# Altium footprint library Connector_PinSocket_1.00mm.PcbLib: 156 footprints (part 3 of 10)
Each footprint in its own frame and in the unit in brackets; x right, y up, seen from the top. Pads: shape width x height; smd on the part's side, far side on the other; paste and mask are expansions set on the pad; w line width, h text height; cw(c..) or ccw(c..) is an arc to the next point about the centre after c.
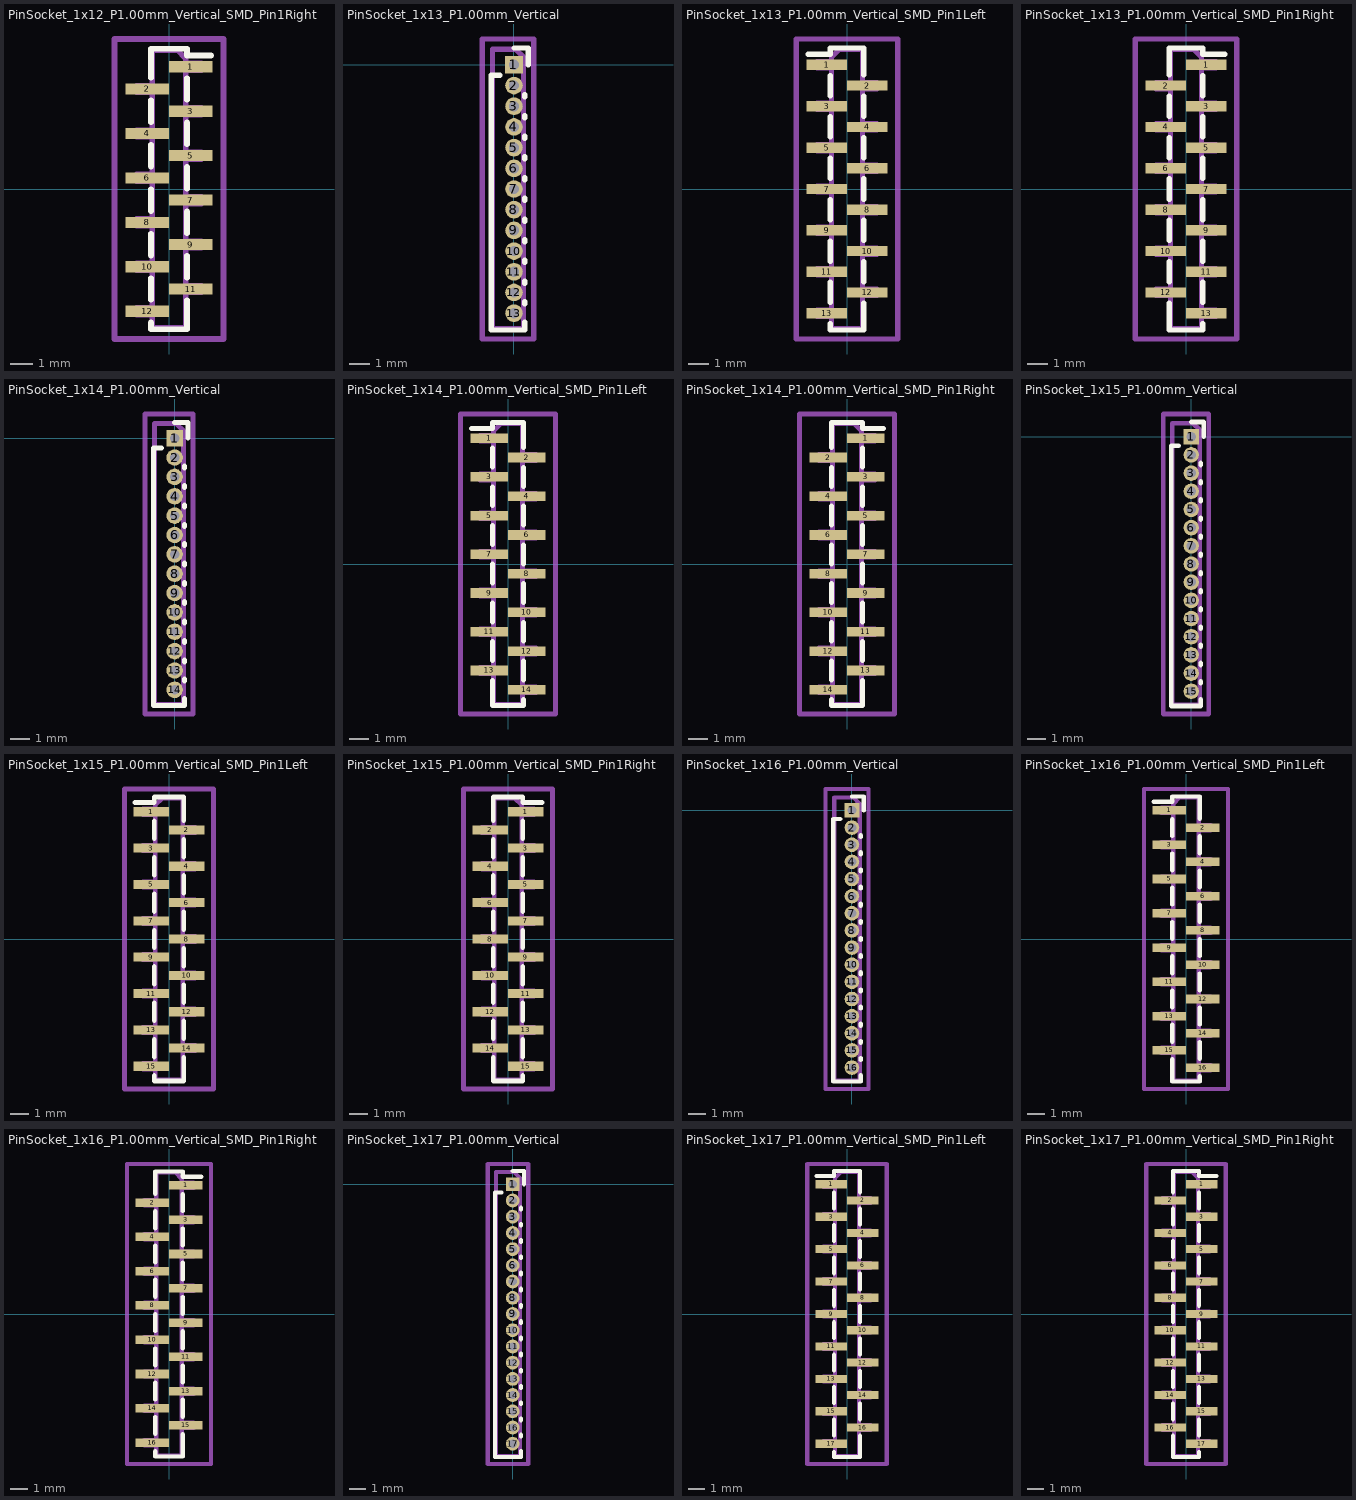
[diagram p2: the footprints below, top view; thin cyan lines are the x and y axes]

## PinSocket_1x12_P1.00mm_Vertical_SMD_Pin1Right [mm]
pads (12):
  rect 1.95x0.5 smd: 1(0.975,5.5) 2(-0.975,4.5) 3(0.975,3.5) 4(-0.975,2.5) 5(0.975,1.5) 6(-0.975,0.5) 7(0.975,-0.5) 8(-0.975,-1.5) 9(0.975,-2.5) 10(-0.975,-3.5) 11(0.975,-4.5) 12(-0.975,-5.5)
F.SilkS:
  lines w0.254: -0.81,-6.01 -0.81,-6.31 0.81,-6.31 0.81,-5.01 ; -0.81,-4.99 -0.81,-4.01 ; -0.81,-2.99 -0.81,-2.01 ; -0.81,-0.99 -0.81,-0.01 ; -0.81,1.01 -0.81,1.99 ; -0.81,3.01 -0.81,3.99 ; -0.81,5.01 -0.81,6.31 0.81,6.31 0.81,6.01 1.89,6.01 ; 0.81,-3.99 0.81,-3.01 ; 0.81,-1.99 0.81,-1.01 ; 0.81,0.01 0.81,0.99 ; 0.81,2.01 0.81,2.99 ; 0.81,4.01 0.81,4.99
Top Assembly:
  lines w0.254: -0.75,-5.65 -1.45,-5.65 -1.45,-5.35 -0.75,-5.35 ; -0.75,-3.65 -1.45,-3.65 -1.45,-3.35 -0.75,-3.35 ; -0.75,-1.65 -1.45,-1.65 -1.45,-1.35 -0.75,-1.35 ; -0.75,0.35 -1.45,0.35 -1.45,0.65 -0.75,0.65 ; -0.75,2.35 -1.45,2.35 -1.45,2.65 -0.75,2.65 ; -0.75,4.35 -1.45,4.35 -1.45,4.65 -0.75,4.65 ; 0.75,-4.65 1.45,-4.65 1.45,-4.35 0.75,-4.35 ; 0.75,-2.65 1.45,-2.65 1.45,-2.35 0.75,-2.35 ; 0.75,-0.65 1.45,-0.65 1.45,-0.35 0.75,-0.35 ; 0.75,1.35 1.45,1.35 1.45,1.65 0.75,1.65 ; 0.75,3.35 1.45,3.35 1.45,3.65 0.75,3.65 ; 0.75,5.35 1.45,5.35 1.45,5.65 0.75,5.65 ; -0.75,-6.25 0.75,-6.25 0.75,5.875 0.375,6.25 -0.75,6.25 -0.75,-6.25
  text "'.Designator'" at 0.761,-3.647 h0.9
Top Courtyard:
  lines w0.254: -2.45,-6.75 2.45,-6.75 2.45,6.75 -2.45,6.75 -2.45,-6.75
Top Designator:
  text ".Designator" at -7.618,-0.508 h1.52

## PinSocket_1x13_P1.00mm_Vertical [mm]
pads (13):
  rect 0.85x0.85 hole 0.5: 1(0,0)
  round 0.85 hole 0.5: 2(0,-1) 3(0,-2) 4(0,-3) 5(0,-4) 6(0,-5) 7(0,-6) 8(0,-7) 9(0,-8) 10(0,-9) 11(0,-10) 12(0,-11) 13(0,-12)
F.SilkS:
  lines w0.254: -0.685,-0.5 -1.1,-0.5 -1.1,-12.81 0.52,-12.81 0.52,-12.446 ; 0,0.81 0.685,0.81 0.685,0 ; 0.52,-11.554 0.52,-11.446 ; 0.52,-10.554 0.52,-10.446 ; 0.52,-9.554 0.52,-9.446 ; 0.52,-8.554 0.52,-8.446 ; 0.52,-7.554 0.52,-7.446 ; 0.52,-6.554 0.52,-6.446 ; 0.52,-5.554 0.52,-5.446 ; 0.52,-4.554 0.52,-4.446 ; 0.52,-3.554 0.52,-3.446 ; 0.52,-2.554 0.52,-2.446 ; 0.52,-1.554 0.52,-1.446
Top Assembly:
  lines w0.254: -1.04,-12.75 0.46,-12.75 0.46,0.375 0.085,0.75 -1.04,0.75 -1.04,-12.75
  text "'.Designator'" at 0.471,-9.647 h0.9
Top Courtyard:
  lines w0.254: -1.54,-13.25 0.96,-13.25 0.96,1.25 -1.54,1.25 -1.54,-13.25
Top Designator:
  text ".Designator" at -7.908,-6.508 h1.52

## PinSocket_1x13_P1.00mm_Vertical_SMD_Pin1Left [mm]
pads (13):
  rect 1.95x0.5 smd: 1(-0.975,6) 2(0.975,5) 3(-0.975,4) 4(0.975,3) 5(-0.975,2) 6(0.975,1) 7(-0.975,0) 8(0.975,-1) 9(-0.975,-2) 10(0.975,-3) 11(-0.975,-4) 12(0.975,-5) 13(-0.975,-6)
F.SilkS:
  lines w0.254: -1.89,6.51 -0.81,6.51 -0.81,6.81 0.81,6.81 0.81,5.51 ; -0.81,-6.51 -0.81,-6.81 0.81,-6.81 0.81,-5.51 ; -0.81,-5.49 -0.81,-4.51 ; -0.81,-3.49 -0.81,-2.51 ; -0.81,-1.49 -0.81,-0.51 ; -0.81,0.51 -0.81,1.49 ; -0.81,2.51 -0.81,3.49 ; -0.81,4.51 -0.81,5.49 ; 0.81,-4.49 0.81,-3.51 ; 0.81,-2.49 0.81,-1.51 ; 0.81,-0.49 0.81,0.49 ; 0.81,1.51 0.81,2.49 ; 0.81,3.51 0.81,4.49
Top Assembly:
  lines w0.254: -0.75,-6.15 -1.45,-6.15 -1.45,-5.85 -0.75,-5.85 ; -0.75,-4.15 -1.45,-4.15 -1.45,-3.85 -0.75,-3.85 ; -0.75,-2.15 -1.45,-2.15 -1.45,-1.85 -0.75,-1.85 ; -0.75,-0.15 -1.45,-0.15 -1.45,0.15 -0.75,0.15 ; -0.75,1.85 -1.45,1.85 -1.45,2.15 -0.75,2.15 ; -0.75,3.85 -1.45,3.85 -1.45,4.15 -0.75,4.15 ; -0.75,5.85 -1.45,5.85 -1.45,6.15 -0.75,6.15 ; 0.75,-5.15 1.45,-5.15 1.45,-4.85 0.75,-4.85 ; 0.75,-3.15 1.45,-3.15 1.45,-2.85 0.75,-2.85 ; 0.75,-1.15 1.45,-1.15 1.45,-0.85 0.75,-0.85 ; 0.75,0.85 1.45,0.85 1.45,1.15 0.75,1.15 ; 0.75,2.85 1.45,2.85 1.45,3.15 0.75,3.15 ; 0.75,4.85 1.45,4.85 1.45,5.15 0.75,5.15 ; -0.75,-6.75 0.75,-6.75 0.75,6.75 -0.375,6.75 -0.75,6.375 -0.75,-6.75
  text "'.Designator'" at 0.761,-3.647 h0.9
Top Courtyard:
  lines w0.254: -2.45,-7.25 2.45,-7.25 2.45,7.25 -2.45,7.25 -2.45,-7.25
Top Designator:
  text ".Designator" at -7.618,-0.508 h1.52

## PinSocket_1x13_P1.00mm_Vertical_SMD_Pin1Right [mm]
pads (13):
  rect 1.95x0.5 smd: 1(0.975,6) 2(-0.975,5) 3(0.975,4) 4(-0.975,3) 5(0.975,2) 6(-0.975,1) 7(0.975,0) 8(-0.975,-1) 9(0.975,-2) 10(-0.975,-3) 11(0.975,-4) 12(-0.975,-5) 13(0.975,-6)
F.SilkS:
  lines w0.254: -0.81,-5.51 -0.81,-6.81 0.81,-6.81 0.81,-6.51 ; -0.81,-4.49 -0.81,-3.51 ; -0.81,-2.49 -0.81,-1.51 ; -0.81,-0.49 -0.81,0.49 ; -0.81,1.51 -0.81,2.49 ; -0.81,3.51 -0.81,4.49 ; -0.81,5.51 -0.81,6.81 0.81,6.81 0.81,6.51 1.89,6.51 ; 0.81,-5.49 0.81,-4.51 ; 0.81,-3.49 0.81,-2.51 ; 0.81,-1.49 0.81,-0.51 ; 0.81,0.51 0.81,1.49 ; 0.81,2.51 0.81,3.49 ; 0.81,4.51 0.81,5.49
Top Assembly:
  lines w0.254: -0.75,-5.15 -1.45,-5.15 -1.45,-4.85 -0.75,-4.85 ; -0.75,-3.15 -1.45,-3.15 -1.45,-2.85 -0.75,-2.85 ; -0.75,-1.15 -1.45,-1.15 -1.45,-0.85 -0.75,-0.85 ; -0.75,0.85 -1.45,0.85 -1.45,1.15 -0.75,1.15 ; -0.75,2.85 -1.45,2.85 -1.45,3.15 -0.75,3.15 ; -0.75,4.85 -1.45,4.85 -1.45,5.15 -0.75,5.15 ; 0.75,-6.15 1.45,-6.15 1.45,-5.85 0.75,-5.85 ; 0.75,-4.15 1.45,-4.15 1.45,-3.85 0.75,-3.85 ; 0.75,-2.15 1.45,-2.15 1.45,-1.85 0.75,-1.85 ; 0.75,-0.15 1.45,-0.15 1.45,0.15 0.75,0.15 ; 0.75,1.85 1.45,1.85 1.45,2.15 0.75,2.15 ; 0.75,3.85 1.45,3.85 1.45,4.15 0.75,4.15 ; 0.75,5.85 1.45,5.85 1.45,6.15 0.75,6.15 ; -0.75,-6.75 0.75,-6.75 0.75,6.375 0.375,6.75 -0.75,6.75 -0.75,-6.75
  text "'.Designator'" at 0.761,-3.647 h0.9
Top Courtyard:
  lines w0.254: -2.45,-7.25 2.45,-7.25 2.45,7.25 -2.45,7.25 -2.45,-7.25
Top Designator:
  text ".Designator" at -7.618,-0.508 h1.52

## PinSocket_1x14_P1.00mm_Vertical [mm]
pads (14):
  rect 0.85x0.85 hole 0.5: 1(0,0)
  round 0.85 hole 0.5: 2(0,-1) 3(0,-2) 4(0,-3) 5(0,-4) 6(0,-5) 7(0,-6) 8(0,-7) 9(0,-8) 10(0,-9) 11(0,-10) 12(0,-11) 13(0,-12) 14(0,-13)
F.SilkS:
  lines w0.254: -0.685,-0.5 -1.1,-0.5 -1.1,-13.81 0.52,-13.81 0.52,-13.446 ; 0,0.81 0.685,0.81 0.685,0 ; 0.52,-12.554 0.52,-12.446 ; 0.52,-11.554 0.52,-11.446 ; 0.52,-10.554 0.52,-10.446 ; 0.52,-9.554 0.52,-9.446 ; 0.52,-8.554 0.52,-8.446 ; 0.52,-7.554 0.52,-7.446 ; 0.52,-6.554 0.52,-6.446 ; 0.52,-5.554 0.52,-5.446 ; 0.52,-4.554 0.52,-4.446 ; 0.52,-3.554 0.52,-3.446 ; 0.52,-2.554 0.52,-2.446 ; 0.52,-1.554 0.52,-1.446
Top Assembly:
  lines w0.254: -1.04,-13.75 0.46,-13.75 0.46,0.375 0.085,0.75 -1.04,0.75 -1.04,-13.75
  text "'.Designator'" at 0.471,-10.147 h0.9
Top Courtyard:
  lines w0.254: -1.54,-14.25 0.96,-14.25 0.96,1.25 -1.54,1.25 -1.54,-14.25
Top Designator:
  text ".Designator" at -7.908,-7.008 h1.52

## PinSocket_1x14_P1.00mm_Vertical_SMD_Pin1Left [mm]
pads (14):
  rect 1.95x0.5 smd: 1(-0.975,6.5) 2(0.975,5.5) 3(-0.975,4.5) 4(0.975,3.5) 5(-0.975,2.5) 6(0.975,1.5) 7(-0.975,0.5) 8(0.975,-0.5) 9(-0.975,-1.5) 10(0.975,-2.5) 11(-0.975,-3.5) 12(0.975,-4.5) 13(-0.975,-5.5) 14(0.975,-6.5)
F.SilkS:
  lines w0.254: -1.89,7.01 -0.81,7.01 -0.81,7.31 0.81,7.31 0.81,6.01 ; -0.81,-6.01 -0.81,-7.31 0.81,-7.31 0.81,-7.01 ; -0.81,-4.99 -0.81,-4.01 ; -0.81,-2.99 -0.81,-2.01 ; -0.81,-0.99 -0.81,-0.01 ; -0.81,1.01 -0.81,1.99 ; -0.81,3.01 -0.81,3.99 ; -0.81,5.01 -0.81,5.99 ; 0.81,-5.99 0.81,-5.01 ; 0.81,-3.99 0.81,-3.01 ; 0.81,-1.99 0.81,-1.01 ; 0.81,0.01 0.81,0.99 ; 0.81,2.01 0.81,2.99 ; 0.81,4.01 0.81,4.99
Top Assembly:
  lines w0.254: -0.75,-5.65 -1.45,-5.65 -1.45,-5.35 -0.75,-5.35 ; -0.75,-3.65 -1.45,-3.65 -1.45,-3.35 -0.75,-3.35 ; -0.75,-1.65 -1.45,-1.65 -1.45,-1.35 -0.75,-1.35 ; -0.75,0.35 -1.45,0.35 -1.45,0.65 -0.75,0.65 ; -0.75,2.35 -1.45,2.35 -1.45,2.65 -0.75,2.65 ; -0.75,4.35 -1.45,4.35 -1.45,4.65 -0.75,4.65 ; -0.75,6.35 -1.45,6.35 -1.45,6.65 -0.75,6.65 ; 0.75,-6.65 1.45,-6.65 1.45,-6.35 0.75,-6.35 ; 0.75,-4.65 1.45,-4.65 1.45,-4.35 0.75,-4.35 ; 0.75,-2.65 1.45,-2.65 1.45,-2.35 0.75,-2.35 ; 0.75,-0.65 1.45,-0.65 1.45,-0.35 0.75,-0.35 ; 0.75,1.35 1.45,1.35 1.45,1.65 0.75,1.65 ; 0.75,3.35 1.45,3.35 1.45,3.65 0.75,3.65 ; 0.75,5.35 1.45,5.35 1.45,5.65 0.75,5.65 ; -0.75,-7.25 0.75,-7.25 0.75,7.25 -0.375,7.25 -0.75,6.875 -0.75,-7.25
  text "'.Designator'" at 0.761,-3.647 h0.9
Top Courtyard:
  lines w0.254: -2.45,-7.75 2.45,-7.75 2.45,7.75 -2.45,7.75 -2.45,-7.75
Top Designator:
  text ".Designator" at -7.618,-0.508 h1.52

## PinSocket_1x14_P1.00mm_Vertical_SMD_Pin1Right [mm]
pads (14):
  rect 1.95x0.5 smd: 1(0.975,6.5) 2(-0.975,5.5) 3(0.975,4.5) 4(-0.975,3.5) 5(0.975,2.5) 6(-0.975,1.5) 7(0.975,0.5) 8(-0.975,-0.5) 9(0.975,-1.5) 10(-0.975,-2.5) 11(0.975,-3.5) 12(-0.975,-4.5) 13(0.975,-5.5) 14(-0.975,-6.5)
F.SilkS:
  lines w0.254: -0.81,-7.01 -0.81,-7.31 0.81,-7.31 0.81,-6.01 ; -0.81,-5.99 -0.81,-5.01 ; -0.81,-3.99 -0.81,-3.01 ; -0.81,-1.99 -0.81,-1.01 ; -0.81,0.01 -0.81,0.99 ; -0.81,2.01 -0.81,2.99 ; -0.81,4.01 -0.81,4.99 ; -0.81,6.01 -0.81,7.31 0.81,7.31 0.81,7.01 1.89,7.01 ; 0.81,-4.99 0.81,-4.01 ; 0.81,-2.99 0.81,-2.01 ; 0.81,-0.99 0.81,-0.01 ; 0.81,1.01 0.81,1.99 ; 0.81,3.01 0.81,3.99 ; 0.81,5.01 0.81,5.99
Top Assembly:
  lines w0.254: -0.75,-6.65 -1.45,-6.65 -1.45,-6.35 -0.75,-6.35 ; -0.75,-4.65 -1.45,-4.65 -1.45,-4.35 -0.75,-4.35 ; -0.75,-2.65 -1.45,-2.65 -1.45,-2.35 -0.75,-2.35 ; -0.75,-0.65 -1.45,-0.65 -1.45,-0.35 -0.75,-0.35 ; -0.75,1.35 -1.45,1.35 -1.45,1.65 -0.75,1.65 ; -0.75,3.35 -1.45,3.35 -1.45,3.65 -0.75,3.65 ; -0.75,5.35 -1.45,5.35 -1.45,5.65 -0.75,5.65 ; 0.75,-5.65 1.45,-5.65 1.45,-5.35 0.75,-5.35 ; 0.75,-3.65 1.45,-3.65 1.45,-3.35 0.75,-3.35 ; 0.75,-1.65 1.45,-1.65 1.45,-1.35 0.75,-1.35 ; 0.75,0.35 1.45,0.35 1.45,0.65 0.75,0.65 ; 0.75,2.35 1.45,2.35 1.45,2.65 0.75,2.65 ; 0.75,4.35 1.45,4.35 1.45,4.65 0.75,4.65 ; 0.75,6.35 1.45,6.35 1.45,6.65 0.75,6.65 ; -0.75,-7.25 0.75,-7.25 0.75,6.875 0.375,7.25 -0.75,7.25 -0.75,-7.25
  text "'.Designator'" at 0.761,-3.647 h0.9
Top Courtyard:
  lines w0.254: -2.45,-7.75 2.45,-7.75 2.45,7.75 -2.45,7.75 -2.45,-7.75
Top Designator:
  text ".Designator" at -7.618,-0.508 h1.52

## PinSocket_1x15_P1.00mm_Vertical [mm]
pads (15):
  rect 0.85x0.85 hole 0.5: 1(0,0)
  round 0.85 hole 0.5: 2(0,-1) 3(0,-2) 4(0,-3) 5(0,-4) 6(0,-5) 7(0,-6) 8(0,-7) 9(0,-8) 10(0,-9) 11(0,-10) 12(0,-11) 13(0,-12) 14(0,-13) 15(0,-14)
F.SilkS:
  lines w0.254: -0.685,-0.5 -1.1,-0.5 -1.1,-14.81 0.52,-14.81 0.52,-14.446 ; 0,0.81 0.685,0.81 0.685,0 ; 0.52,-13.554 0.52,-13.446 ; 0.52,-12.554 0.52,-12.446 ; 0.52,-11.554 0.52,-11.446 ; 0.52,-10.554 0.52,-10.446 ; 0.52,-9.554 0.52,-9.446 ; 0.52,-8.554 0.52,-8.446 ; 0.52,-7.554 0.52,-7.446 ; 0.52,-6.554 0.52,-6.446 ; 0.52,-5.554 0.52,-5.446 ; 0.52,-4.554 0.52,-4.446 ; 0.52,-3.554 0.52,-3.446 ; 0.52,-2.554 0.52,-2.446 ; 0.52,-1.554 0.52,-1.446
Top Assembly:
  lines w0.254: -1.04,-14.75 0.46,-14.75 0.46,0.375 0.085,0.75 -1.04,0.75 -1.04,-14.75
  text "'.Designator'" at 0.471,-10.647 h0.9
Top Courtyard:
  lines w0.254: -1.54,-15.25 0.96,-15.25 0.96,1.25 -1.54,1.25 -1.54,-15.25
Top Designator:
  text ".Designator" at -7.908,-7.508 h1.52

## PinSocket_1x15_P1.00mm_Vertical_SMD_Pin1Left [mm]
pads (15):
  rect 1.95x0.5 smd: 1(-0.975,7) 2(0.975,6) 3(-0.975,5) 4(0.975,4) 5(-0.975,3) 6(0.975,2) 7(-0.975,1) 8(0.975,0) 9(-0.975,-1) 10(0.975,-2) 11(-0.975,-3) 12(0.975,-4) 13(-0.975,-5) 14(0.975,-6) 15(-0.975,-7)
F.SilkS:
  lines w0.254: -1.89,7.51 -0.81,7.51 -0.81,7.81 0.81,7.81 0.81,6.51 ; -0.81,-7.51 -0.81,-7.81 0.81,-7.81 0.81,-6.51 ; -0.81,-6.49 -0.81,-5.51 ; -0.81,-4.49 -0.81,-3.51 ; -0.81,-2.49 -0.81,-1.51 ; -0.81,-0.49 -0.81,0.49 ; -0.81,1.51 -0.81,2.49 ; -0.81,3.51 -0.81,4.49 ; -0.81,5.51 -0.81,6.49 ; 0.81,-5.49 0.81,-4.51 ; 0.81,-3.49 0.81,-2.51 ; 0.81,-1.49 0.81,-0.51 ; 0.81,0.51 0.81,1.49 ; 0.81,2.51 0.81,3.49 ; 0.81,4.51 0.81,5.49
Top Assembly:
  lines w0.254: -0.75,-7.15 -1.45,-7.15 -1.45,-6.85 -0.75,-6.85 ; -0.75,-5.15 -1.45,-5.15 -1.45,-4.85 -0.75,-4.85 ; -0.75,-3.15 -1.45,-3.15 -1.45,-2.85 -0.75,-2.85 ; -0.75,-1.15 -1.45,-1.15 -1.45,-0.85 -0.75,-0.85 ; -0.75,0.85 -1.45,0.85 -1.45,1.15 -0.75,1.15 ; -0.75,2.85 -1.45,2.85 -1.45,3.15 -0.75,3.15 ; -0.75,4.85 -1.45,4.85 -1.45,5.15 -0.75,5.15 ; -0.75,6.85 -1.45,6.85 -1.45,7.15 -0.75,7.15 ; 0.75,-6.15 1.45,-6.15 1.45,-5.85 0.75,-5.85 ; 0.75,-4.15 1.45,-4.15 1.45,-3.85 0.75,-3.85 ; 0.75,-2.15 1.45,-2.15 1.45,-1.85 0.75,-1.85 ; 0.75,-0.15 1.45,-0.15 1.45,0.15 0.75,0.15 ; 0.75,1.85 1.45,1.85 1.45,2.15 0.75,2.15 ; 0.75,3.85 1.45,3.85 1.45,4.15 0.75,4.15 ; 0.75,5.85 1.45,5.85 1.45,6.15 0.75,6.15 ; -0.75,-7.75 0.75,-7.75 0.75,7.75 -0.375,7.75 -0.75,7.375 -0.75,-7.75
  text "'.Designator'" at 0.761,-3.647 h0.9
Top Courtyard:
  lines w0.254: -2.45,-8.25 2.45,-8.25 2.45,8.25 -2.45,8.25 -2.45,-8.25
Top Designator:
  text ".Designator" at -7.618,-0.508 h1.52

## PinSocket_1x15_P1.00mm_Vertical_SMD_Pin1Right [mm]
pads (15):
  rect 1.95x0.5 smd: 1(0.975,7) 2(-0.975,6) 3(0.975,5) 4(-0.975,4) 5(0.975,3) 6(-0.975,2) 7(0.975,1) 8(-0.975,0) 9(0.975,-1) 10(-0.975,-2) 11(0.975,-3) 12(-0.975,-4) 13(0.975,-5) 14(-0.975,-6) 15(0.975,-7)
F.SilkS:
  lines w0.254: -0.81,-6.51 -0.81,-7.81 0.81,-7.81 0.81,-7.51 ; -0.81,-5.49 -0.81,-4.51 ; -0.81,-3.49 -0.81,-2.51 ; -0.81,-1.49 -0.81,-0.51 ; -0.81,0.51 -0.81,1.49 ; -0.81,2.51 -0.81,3.49 ; -0.81,4.51 -0.81,5.49 ; -0.81,6.51 -0.81,7.81 0.81,7.81 0.81,7.51 1.89,7.51 ; 0.81,-6.49 0.81,-5.51 ; 0.81,-4.49 0.81,-3.51 ; 0.81,-2.49 0.81,-1.51 ; 0.81,-0.49 0.81,0.49 ; 0.81,1.51 0.81,2.49 ; 0.81,3.51 0.81,4.49 ; 0.81,5.51 0.81,6.49
Top Assembly:
  lines w0.254: -0.75,-6.15 -1.45,-6.15 -1.45,-5.85 -0.75,-5.85 ; -0.75,-4.15 -1.45,-4.15 -1.45,-3.85 -0.75,-3.85 ; -0.75,-2.15 -1.45,-2.15 -1.45,-1.85 -0.75,-1.85 ; -0.75,-0.15 -1.45,-0.15 -1.45,0.15 -0.75,0.15 ; -0.75,1.85 -1.45,1.85 -1.45,2.15 -0.75,2.15 ; -0.75,3.85 -1.45,3.85 -1.45,4.15 -0.75,4.15 ; -0.75,5.85 -1.45,5.85 -1.45,6.15 -0.75,6.15 ; 0.75,-7.15 1.45,-7.15 1.45,-6.85 0.75,-6.85 ; 0.75,-5.15 1.45,-5.15 1.45,-4.85 0.75,-4.85 ; 0.75,-3.15 1.45,-3.15 1.45,-2.85 0.75,-2.85 ; 0.75,-1.15 1.45,-1.15 1.45,-0.85 0.75,-0.85 ; 0.75,0.85 1.45,0.85 1.45,1.15 0.75,1.15 ; 0.75,2.85 1.45,2.85 1.45,3.15 0.75,3.15 ; 0.75,4.85 1.45,4.85 1.45,5.15 0.75,5.15 ; 0.75,6.85 1.45,6.85 1.45,7.15 0.75,7.15 ; -0.75,-7.75 0.75,-7.75 0.75,7.375 0.375,7.75 -0.75,7.75 -0.75,-7.75
  text "'.Designator'" at 0.761,-3.647 h0.9
Top Courtyard:
  lines w0.254: -2.45,-8.25 2.45,-8.25 2.45,8.25 -2.45,8.25 -2.45,-8.25
Top Designator:
  text ".Designator" at -7.618,-0.508 h1.52

## PinSocket_1x16_P1.00mm_Vertical [mm]
pads (16):
  rect 0.85x0.85 hole 0.5: 1(0,0)
  round 0.85 hole 0.5: 2(0,-1) 3(0,-2) 4(0,-3) 5(0,-4) 6(0,-5) 7(0,-6) 8(0,-7) 9(0,-8) 10(0,-9) 11(0,-10) 12(0,-11) 13(0,-12) 14(0,-13) 15(0,-14) 16(0,-15)
F.SilkS:
  lines w0.254: -0.685,-0.5 -1.1,-0.5 -1.1,-15.81 0.52,-15.81 0.52,-15.446 ; 0,0.81 0.685,0.81 0.685,0 ; 0.52,-14.554 0.52,-14.446 ; 0.52,-13.554 0.52,-13.446 ; 0.52,-12.554 0.52,-12.446 ; 0.52,-11.554 0.52,-11.446 ; 0.52,-10.554 0.52,-10.446 ; 0.52,-9.554 0.52,-9.446 ; 0.52,-8.554 0.52,-8.446 ; 0.52,-7.554 0.52,-7.446 ; 0.52,-6.554 0.52,-6.446 ; 0.52,-5.554 0.52,-5.446 ; 0.52,-4.554 0.52,-4.446 ; 0.52,-3.554 0.52,-3.446 ; 0.52,-2.554 0.52,-2.446 ; 0.52,-1.554 0.52,-1.446
Top Assembly:
  lines w0.254: -1.04,-15.75 0.46,-15.75 0.46,0.375 0.085,0.75 -1.04,0.75 -1.04,-15.75
  text "'.Designator'" at 0.471,-11.147 h0.9
Top Courtyard:
  lines w0.254: -1.54,-16.25 0.96,-16.25 0.96,1.25 -1.54,1.25 -1.54,-16.25
Top Designator:
  text ".Designator" at -7.908,-8.008 h1.52

## PinSocket_1x16_P1.00mm_Vertical_SMD_Pin1Left [mm]
pads (16):
  rect 1.95x0.5 smd: 1(-0.975,7.5) 2(0.975,6.5) 3(-0.975,5.5) 4(0.975,4.5) 5(-0.975,3.5) 6(0.975,2.5) 7(-0.975,1.5) 8(0.975,0.5) 9(-0.975,-0.5) 10(0.975,-1.5) 11(-0.975,-2.5) 12(0.975,-3.5) 13(-0.975,-4.5) 14(0.975,-5.5) 15(-0.975,-6.5) 16(0.975,-7.5)
F.SilkS:
  lines w0.254: -1.89,8.01 -0.81,8.01 -0.81,8.31 0.81,8.31 0.81,7.01 ; -0.81,-7.01 -0.81,-8.31 0.81,-8.31 0.81,-8.01 ; -0.81,-5.99 -0.81,-5.01 ; -0.81,-3.99 -0.81,-3.01 ; -0.81,-1.99 -0.81,-1.01 ; -0.81,0.01 -0.81,0.99 ; -0.81,2.01 -0.81,2.99 ; -0.81,4.01 -0.81,4.99 ; -0.81,6.01 -0.81,6.99 ; 0.81,-6.99 0.81,-6.01 ; 0.81,-4.99 0.81,-4.01 ; 0.81,-2.99 0.81,-2.01 ; 0.81,-0.99 0.81,-0.01 ; 0.81,1.01 0.81,1.99 ; 0.81,3.01 0.81,3.99 ; 0.81,5.01 0.81,5.99
Top Assembly:
  lines w0.254: -0.75,-6.65 -1.45,-6.65 -1.45,-6.35 -0.75,-6.35 ; -0.75,-4.65 -1.45,-4.65 -1.45,-4.35 -0.75,-4.35 ; -0.75,-2.65 -1.45,-2.65 -1.45,-2.35 -0.75,-2.35 ; -0.75,-0.65 -1.45,-0.65 -1.45,-0.35 -0.75,-0.35 ; -0.75,1.35 -1.45,1.35 -1.45,1.65 -0.75,1.65 ; -0.75,3.35 -1.45,3.35 -1.45,3.65 -0.75,3.65 ; -0.75,5.35 -1.45,5.35 -1.45,5.65 -0.75,5.65 ; -0.75,7.35 -1.45,7.35 -1.45,7.65 -0.75,7.65 ; 0.75,-7.65 1.45,-7.65 1.45,-7.35 0.75,-7.35 ; 0.75,-5.65 1.45,-5.65 1.45,-5.35 0.75,-5.35 ; 0.75,-3.65 1.45,-3.65 1.45,-3.35 0.75,-3.35 ; 0.75,-1.65 1.45,-1.65 1.45,-1.35 0.75,-1.35 ; 0.75,0.35 1.45,0.35 1.45,0.65 0.75,0.65 ; 0.75,2.35 1.45,2.35 1.45,2.65 0.75,2.65 ; 0.75,4.35 1.45,4.35 1.45,4.65 0.75,4.65 ; 0.75,6.35 1.45,6.35 1.45,6.65 0.75,6.65 ; -0.75,-8.25 0.75,-8.25 0.75,8.25 -0.375,8.25 -0.75,7.875 -0.75,-8.25
  text "'.Designator'" at 0.761,-3.647 h0.9
Top Courtyard:
  lines w0.254: -2.45,-8.75 2.45,-8.75 2.45,8.75 -2.45,8.75 -2.45,-8.75
Top Designator:
  text ".Designator" at -7.618,-0.508 h1.52

## PinSocket_1x16_P1.00mm_Vertical_SMD_Pin1Right [mm]
pads (16):
  rect 1.95x0.5 smd: 1(0.975,7.5) 2(-0.975,6.5) 3(0.975,5.5) 4(-0.975,4.5) 5(0.975,3.5) 6(-0.975,2.5) 7(0.975,1.5) 8(-0.975,0.5) 9(0.975,-0.5) 10(-0.975,-1.5) 11(0.975,-2.5) 12(-0.975,-3.5) 13(0.975,-4.5) 14(-0.975,-5.5) 15(0.975,-6.5) 16(-0.975,-7.5)
F.SilkS:
  lines w0.254: -0.81,-8.01 -0.81,-8.31 0.81,-8.31 0.81,-7.01 ; -0.81,-6.99 -0.81,-6.01 ; -0.81,-4.99 -0.81,-4.01 ; -0.81,-2.99 -0.81,-2.01 ; -0.81,-0.99 -0.81,-0.01 ; -0.81,1.01 -0.81,1.99 ; -0.81,3.01 -0.81,3.99 ; -0.81,5.01 -0.81,5.99 ; -0.81,7.01 -0.81,8.31 0.81,8.31 0.81,8.01 1.89,8.01 ; 0.81,-5.99 0.81,-5.01 ; 0.81,-3.99 0.81,-3.01 ; 0.81,-1.99 0.81,-1.01 ; 0.81,0.01 0.81,0.99 ; 0.81,2.01 0.81,2.99 ; 0.81,4.01 0.81,4.99 ; 0.81,6.01 0.81,6.99
Top Assembly:
  lines w0.254: -0.75,-7.65 -1.45,-7.65 -1.45,-7.35 -0.75,-7.35 ; -0.75,-5.65 -1.45,-5.65 -1.45,-5.35 -0.75,-5.35 ; -0.75,-3.65 -1.45,-3.65 -1.45,-3.35 -0.75,-3.35 ; -0.75,-1.65 -1.45,-1.65 -1.45,-1.35 -0.75,-1.35 ; -0.75,0.35 -1.45,0.35 -1.45,0.65 -0.75,0.65 ; -0.75,2.35 -1.45,2.35 -1.45,2.65 -0.75,2.65 ; -0.75,4.35 -1.45,4.35 -1.45,4.65 -0.75,4.65 ; -0.75,6.35 -1.45,6.35 -1.45,6.65 -0.75,6.65 ; 0.75,-6.65 1.45,-6.65 1.45,-6.35 0.75,-6.35 ; 0.75,-4.65 1.45,-4.65 1.45,-4.35 0.75,-4.35 ; 0.75,-2.65 1.45,-2.65 1.45,-2.35 0.75,-2.35 ; 0.75,-0.65 1.45,-0.65 1.45,-0.35 0.75,-0.35 ; 0.75,1.35 1.45,1.35 1.45,1.65 0.75,1.65 ; 0.75,3.35 1.45,3.35 1.45,3.65 0.75,3.65 ; 0.75,5.35 1.45,5.35 1.45,5.65 0.75,5.65 ; 0.75,7.35 1.45,7.35 1.45,7.65 0.75,7.65 ; -0.75,-8.25 0.75,-8.25 0.75,7.875 0.375,8.25 -0.75,8.25 -0.75,-8.25
  text "'.Designator'" at 0.761,-3.647 h0.9
Top Courtyard:
  lines w0.254: -2.45,-8.75 2.45,-8.75 2.45,8.75 -2.45,8.75 -2.45,-8.75
Top Designator:
  text ".Designator" at -7.618,-0.508 h1.52

## PinSocket_1x17_P1.00mm_Vertical [mm]
pads (17):
  rect 0.85x0.85 hole 0.5: 1(0,0)
  round 0.85 hole 0.5: 2(0,-1) 3(0,-2) 4(0,-3) 5(0,-4) 6(0,-5) 7(0,-6) 8(0,-7) 9(0,-8) 10(0,-9) 11(0,-10) 12(0,-11) 13(0,-12) 14(0,-13) 15(0,-14) 16(0,-15) 17(0,-16)
F.SilkS:
  lines w0.254: -0.685,-0.5 -1.1,-0.5 -1.1,-16.81 0.52,-16.81 0.52,-16.446 ; 0,0.81 0.685,0.81 0.685,0 ; 0.52,-15.554 0.52,-15.446 ; 0.52,-14.554 0.52,-14.446 ; 0.52,-13.554 0.52,-13.446 ; 0.52,-12.554 0.52,-12.446 ; 0.52,-11.554 0.52,-11.446 ; 0.52,-10.554 0.52,-10.446 ; 0.52,-9.554 0.52,-9.446 ; 0.52,-8.554 0.52,-8.446 ; 0.52,-7.554 0.52,-7.446 ; 0.52,-6.554 0.52,-6.446 ; 0.52,-5.554 0.52,-5.446 ; 0.52,-4.554 0.52,-4.446 ; 0.52,-3.554 0.52,-3.446 ; 0.52,-2.554 0.52,-2.446 ; 0.52,-1.554 0.52,-1.446
Top Assembly:
  lines w0.254: -1.04,-16.75 0.46,-16.75 0.46,0.375 0.085,0.75 -1.04,0.75 -1.04,-16.75
  text "'.Designator'" at 0.471,-11.647 h0.9
Top Courtyard:
  lines w0.254: -1.54,-17.25 0.96,-17.25 0.96,1.25 -1.54,1.25 -1.54,-17.25
Top Designator:
  text ".Designator" at -7.908,-8.508 h1.52

## PinSocket_1x17_P1.00mm_Vertical_SMD_Pin1Left [mm]
pads (17):
  rect 1.95x0.5 smd: 1(-0.975,8) 2(0.975,7) 3(-0.975,6) 4(0.975,5) 5(-0.975,4) 6(0.975,3) 7(-0.975,2) 8(0.975,1) 9(-0.975,0) 10(0.975,-1) 11(-0.975,-2) 12(0.975,-3) 13(-0.975,-4) 14(0.975,-5) 15(-0.975,-6) 16(0.975,-7) 17(-0.975,-8)
F.SilkS:
  lines w0.254: -1.89,8.51 -0.81,8.51 -0.81,8.81 0.81,8.81 0.81,7.51 ; -0.81,-8.51 -0.81,-8.81 0.81,-8.81 0.81,-7.51 ; -0.81,-7.49 -0.81,-6.51 ; -0.81,-5.49 -0.81,-4.51 ; -0.81,-3.49 -0.81,-2.51 ; -0.81,-1.49 -0.81,-0.51 ; -0.81,0.51 -0.81,1.49 ; -0.81,2.51 -0.81,3.49 ; -0.81,4.51 -0.81,5.49 ; -0.81,6.51 -0.81,7.49 ; 0.81,-6.49 0.81,-5.51 ; 0.81,-4.49 0.81,-3.51 ; 0.81,-2.49 0.81,-1.51 ; 0.81,-0.49 0.81,0.49 ; 0.81,1.51 0.81,2.49 ; 0.81,3.51 0.81,4.49 ; 0.81,5.51 0.81,6.49
Top Assembly:
  lines w0.254: -0.75,-8.15 -1.45,-8.15 -1.45,-7.85 -0.75,-7.85 ; -0.75,-6.15 -1.45,-6.15 -1.45,-5.85 -0.75,-5.85 ; -0.75,-4.15 -1.45,-4.15 -1.45,-3.85 -0.75,-3.85 ; -0.75,-2.15 -1.45,-2.15 -1.45,-1.85 -0.75,-1.85 ; -0.75,-0.15 -1.45,-0.15 -1.45,0.15 -0.75,0.15 ; -0.75,1.85 -1.45,1.85 -1.45,2.15 -0.75,2.15 ; -0.75,3.85 -1.45,3.85 -1.45,4.15 -0.75,4.15 ; -0.75,5.85 -1.45,5.85 -1.45,6.15 -0.75,6.15 ; -0.75,7.85 -1.45,7.85 -1.45,8.15 -0.75,8.15 ; 0.75,-7.15 1.45,-7.15 1.45,-6.85 0.75,-6.85 ; 0.75,-5.15 1.45,-5.15 1.45,-4.85 0.75,-4.85 ; 0.75,-3.15 1.45,-3.15 1.45,-2.85 0.75,-2.85 ; 0.75,-1.15 1.45,-1.15 1.45,-0.85 0.75,-0.85 ; 0.75,0.85 1.45,0.85 1.45,1.15 0.75,1.15 ; 0.75,2.85 1.45,2.85 1.45,3.15 0.75,3.15 ; 0.75,4.85 1.45,4.85 1.45,5.15 0.75,5.15 ; 0.75,6.85 1.45,6.85 1.45,7.15 0.75,7.15 ; -0.75,-8.75 0.75,-8.75 0.75,8.75 -0.375,8.75 -0.75,8.375 -0.75,-8.75
  text "'.Designator'" at 0.761,-3.647 h0.9
Top Courtyard:
  lines w0.254: -2.45,-9.25 2.45,-9.25 2.45,9.25 -2.45,9.25 -2.45,-9.25
Top Designator:
  text ".Designator" at -7.618,-0.508 h1.52

## PinSocket_1x17_P1.00mm_Vertical_SMD_Pin1Right [mm]
pads (17):
  rect 1.95x0.5 smd: 1(0.975,8) 2(-0.975,7) 3(0.975,6) 4(-0.975,5) 5(0.975,4) 6(-0.975,3) 7(0.975,2) 8(-0.975,1) 9(0.975,0) 10(-0.975,-1) 11(0.975,-2) 12(-0.975,-3) 13(0.975,-4) 14(-0.975,-5) 15(0.975,-6) 16(-0.975,-7) 17(0.975,-8)
F.SilkS:
  lines w0.254: -0.81,-7.51 -0.81,-8.81 0.81,-8.81 0.81,-8.51 ; -0.81,-6.49 -0.81,-5.51 ; -0.81,-4.49 -0.81,-3.51 ; -0.81,-2.49 -0.81,-1.51 ; -0.81,-0.49 -0.81,0.49 ; -0.81,1.51 -0.81,2.49 ; -0.81,3.51 -0.81,4.49 ; -0.81,5.51 -0.81,6.49 ; -0.81,7.51 -0.81,8.81 0.81,8.81 0.81,8.51 1.89,8.51 ; 0.81,-7.49 0.81,-6.51 ; 0.81,-5.49 0.81,-4.51 ; 0.81,-3.49 0.81,-2.51 ; 0.81,-1.49 0.81,-0.51 ; 0.81,0.51 0.81,1.49 ; 0.81,2.51 0.81,3.49 ; 0.81,4.51 0.81,5.49 ; 0.81,6.51 0.81,7.49
Top Assembly:
  lines w0.254: -0.75,-7.15 -1.45,-7.15 -1.45,-6.85 -0.75,-6.85 ; -0.75,-5.15 -1.45,-5.15 -1.45,-4.85 -0.75,-4.85 ; -0.75,-3.15 -1.45,-3.15 -1.45,-2.85 -0.75,-2.85 ; -0.75,-1.15 -1.45,-1.15 -1.45,-0.85 -0.75,-0.85 ; -0.75,0.85 -1.45,0.85 -1.45,1.15 -0.75,1.15 ; -0.75,2.85 -1.45,2.85 -1.45,3.15 -0.75,3.15 ; -0.75,4.85 -1.45,4.85 -1.45,5.15 -0.75,5.15 ; -0.75,6.85 -1.45,6.85 -1.45,7.15 -0.75,7.15 ; 0.75,-8.15 1.45,-8.15 1.45,-7.85 0.75,-7.85 ; 0.75,-6.15 1.45,-6.15 1.45,-5.85 0.75,-5.85 ; 0.75,-4.15 1.45,-4.15 1.45,-3.85 0.75,-3.85 ; 0.75,-2.15 1.45,-2.15 1.45,-1.85 0.75,-1.85 ; 0.75,-0.15 1.45,-0.15 1.45,0.15 0.75,0.15 ; 0.75,1.85 1.45,1.85 1.45,2.15 0.75,2.15 ; 0.75,3.85 1.45,3.85 1.45,4.15 0.75,4.15 ; 0.75,5.85 1.45,5.85 1.45,6.15 0.75,6.15 ; 0.75,7.85 1.45,7.85 1.45,8.15 0.75,8.15 ; -0.75,-8.75 0.75,-8.75 0.75,8.375 0.375,8.75 -0.75,8.75 -0.75,-8.75
  text "'.Designator'" at 0.761,-3.647 h0.9
Top Courtyard:
  lines w0.254: -2.45,-9.25 2.45,-9.25 2.45,9.25 -2.45,9.25 -2.45,-9.25
Top Designator:
  text ".Designator" at -7.618,-0.508 h1.52